# Altium schematic symbol library OltestLib.SchLib: 174 symbols (part 1 of 3)
Pins are listed as number, name and electrical type; pins without a type are passive.

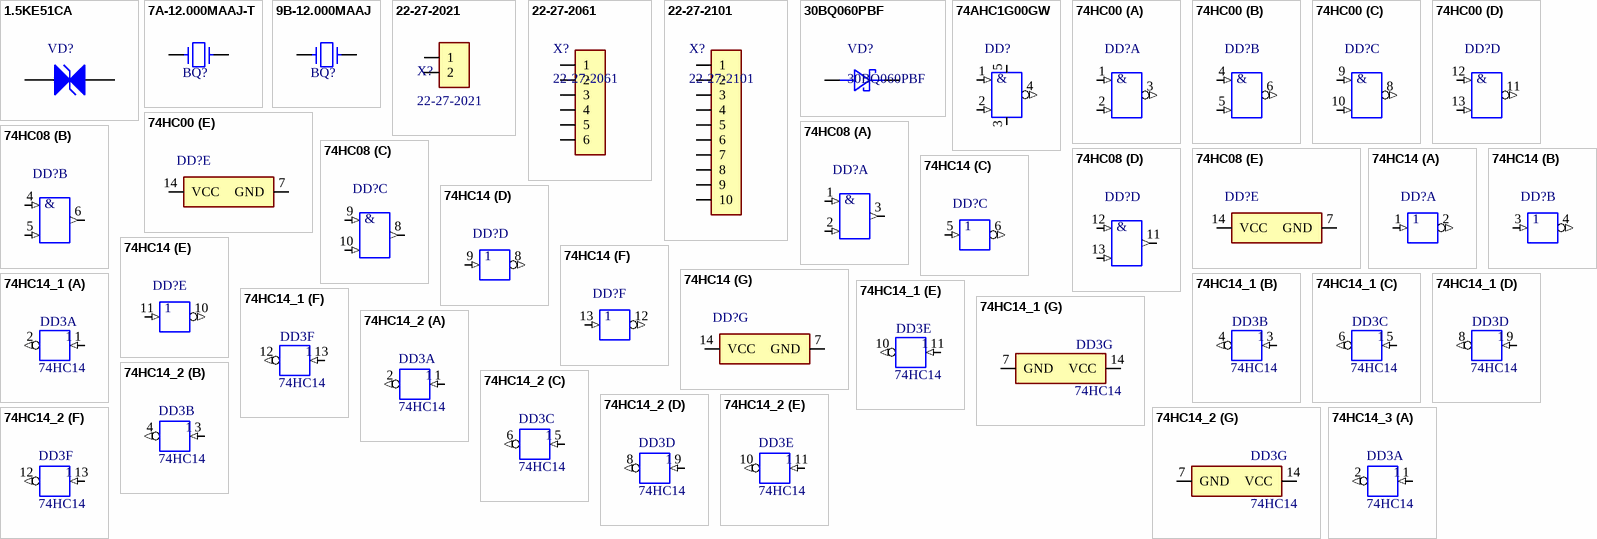
[diagram p0: symbols 1.5KE51CA to 74HC14_3]

## 1.5KE51CA
designator VD?
1500 W Zener Transient Voltage Suppressor, Bidirectional; Manufacturer: LITTELFUSE; PartNumber: 1.5KE51CA
footprint 1.5KE_CA (AXIAL, 2-Leads, Diameter 5.05mm)
pins: 1, 2

## 7A-12.000MAAJ-T
designator BQ?, comment 12MHz  (value not drawn)
12MHz Quartz Crystal 7A; PartNumber: 7A-12.000MAAJ-T; Manufacturer: TXC; Value: 12MHz
footprint DFN390P500X135-2N (DFN, 2-Leads, Body 3,20x5,00mm, Pitch 3,90mm, Quartz Crystal)
pins: 1, 2

## 9B-12.000MAAJ
designator BQ?, comment 12MHz  (value not drawn)
12MHz Quartz Crystal HC-49S; PartNumber: 9B-12.000MAAJ; Manufacturer: TXC; Value: 12MHz
footprint HC-49S
pins: 1, 2

## 22-27-2021
designator X?
KK254 6410 2-pin LS=2.54; Manufacturer: Molex; PartNumber: 22-27-2021
pins: 1, 2

## 22-27-2061
designator X?
KK254 6410 6-pin LS=2.54; Manufacturer: Molex; PartNumber: 22-27-2061
footprint 22-27-2061 (Connector; 6 Position; Vertical; Pitch 2.54 mm; Body 15.2 x 5.7 x 11.6 mm (LxWxH))
pins: 1, 2, 3, 4, 5, 6

## 22-27-2101
designator X?
KK254 6410 10-pin LS=2.54; Manufacturer: Molex; PartNumber: 22-27-2101
footprint 22-27-2101 (Connector; 10 Position; Vertical; Pitch 2.54 mm; Body 25 x 5.7 x 11.6 mm (LxWxH))
pins: 1, 2, 3, 4, 5, 6, 7, 8, 9, 10

## 30BQ060PBF
designator VD?
3A/60V Schottky 30BQ060PBF Diode (SMC); Manufacturer: NXP; PartNumber: 30BQ060PBF
footprint SMC_VD_L8.1_W6.2 (Schottky Diode, 2-Leads, Body 8,13x6,52mm, IPC Low Density)
pins: 1 ANODE, 2 CATHODE

## 74AHC1G00GW
designator DD?
2-Input-NAND Gates; Manufacturer: NXP; PartNumber: 74AHC1G00GW-Q100; VCC(Min)(V): -0.5; VCC(Max)(V): 7; Output Type: CMOS; Bits(#): 1; Technology Family: HC; Voltage(Nom)(V): 5; Schmitt Trigger: Yes; Input Type: CMOS; Operating Temperature Range(C): -40 to +125
footprint SOT353-1 (SOT353-1, 5-Leads, Body 2,05x2,13mm, Pitch 0,65mm, IPC Medium Density)
pins: 1 B (in) "Gate 1 input", 2 A (in) "Gate 1 input", 3 GND, 4 Y (out) "Gate 1 output", 5 VCC
text: &

## 74HC00
designator DD?
Quad 2-Input Positive-NAND Gates, PW0014A; Generic Part Number: SN74HC00; Manufacturer: Texas Instruments; PartNumber: SN74HC00PW; VCC(Min)(V): 2; VCC(Max)(V): 6; Output Type: CMOS; ICC @ Nom Voltage(Max)(mA): 0.02; Bits(#): 4; F @ Nom Voltage(Max)(Mhz): 70; Technology Family: HC; Voltage(Nom)(V): 5; Schmitt Trigger: Yes; Output Drive (IOL/IOH)(Max)(mA): 5.2/-5.2; tpd @ Nom Voltage(Max)(ns): 23; PackageReference: PW0014A; Input Type: CMOS; Operating Temperature Range(C): -40 to 85
footprint PW0014A_M (SOP, 14-Leads, Body 5.1x4.5mm, Pitch 0.65mm, IPC Low Density)
part A pins: 1 1A (in) "Gate 1 input", 2 1B (in) "Gate 1 input", 3 1Y (out) "Gate 1 output"
part B pins: 4 2A (in) "Gate 2 input", 5 2B (in) "Gate 2 input", 6 2Y (out) "Gate 2 output"
part C pins: 8 3Y (out) "Gate 3 output", 9 3A (in) "Gate 3 input", 10 3B (in) "Gate 3 input"
part D pins: 11 4Y (out) "Gate 4 output", 12 4A (in) "Gate 4 input", 13 4B (in) "Gate 4 input"
part E pins: 7 GND (power) "Ground Pin", 14 VCC (power) "Power Pin"
part A text: &
part B text: &
part C text: &
part D text: &

## 74HC08
designator DD?
Quadruple 2-Input Positive-AND Gates, PW0014A, TUBE; Generic Part Number: SN74HC08; Manufacturer: Texas Instruments; PartNumber: SN74HC08PW; VCC(Min)(V): 2; VCC(Max)(V): 6; Output Type: CMOS; ICC @ Nom Voltage(Max)(mA): 0.02; Bits(#): 4; F @ Nom Voltage(Max)(Mhz): 70; Rating: Catalog; Technology Family: HC; Voltage(Nom)(V): 5; Schmitt Trigger: No; tpd @ Nom Voltage(Max)(ns): 28; DatasheetVersion: SCLS081F; PackageReference: PW0014A; Input Type: CMOS; Operating Temperature Range(C): -40 to 85
footprint PW0014A_M (SOP, 14-Leads, Body 5.1x4.5mm, Pitch 0.65mm, IPC Low Density)
part A pins: 1 1A (in), 2 1B (in), 3 1Y (out)
part B pins: 4 2A (in), 5 2B (in), 6 2Y (out)
part C pins: 8 3Y (out), 9 3A (in), 10 3B (in)
part D pins: 11 4Y (out), 12 4A (in), 13 4B (in)
part E pins: 7 GND (power), 14 VCC (power)
part A text: &
part B text: &
part C text: &
part D text: &

## 74HC14
designator DD?
Quadruple 2-Input Positive-OR Gates, PW0014A; Manufacturer: Texas Instruments; PartNumber: SN74HC14PW; VCC(Min)(V): 2; VCC(Max)(V): 6; Output Type: CMOS; ICC @ Nom Voltage(Max)(mA): 0.02; Bits(#): 4; F @ Nom Voltage(Max)(Mhz): 70; Voltage(Nom)(V): 5; Output Drive (IOL/IOH)(Max)(mA): 5.2/-5.2; tpd @ Nom Voltage(Max)(ns): 25; PackageReference: PW0014A; Input Type: CMOS; Operating Temperature Range(C): -40 to 85
footprint PW0014A_M (SOP, 14-Leads, Body 5.1x4.5mm, Pitch 0.65mm, IPC Low Density)
part A pins: 1 1A (in), 2 1Y (out)
part B pins: 3 2A (in), 4 2Y (out)
part C pins: 5 3A (in), 6 3Y (out)
part D pins: 8 4Y (out), 9 4A (in)
part E pins: 10 5Y (out), 11 5A (in)
part F pins: 12 6Y (out), 13 6A (in)
part G pins: 7 GND (power), 14 VCC (power)

## 74HC14_1
designator DD3, comment 74HC14
Quadruple 2-Input Positive-OR Gates, PW0014A; Manufacturer: Texas Instruments; PartNumber: SN74HC14PW; VCC(Min)(V): 2; VCC(Max)(V): 6; Output Type: CMOS; ICC @ Nom Voltage(Max)(mA): 0.02; Bits(#): 4; F @ Nom Voltage(Max)(Mhz): 70; Voltage(Nom)(V): 5; Output Drive (IOL/IOH)(Max)(mA): 5.2/-5.2; tpd @ Nom Voltage(Max)(ns): 25; PackageReference: PW0014A; Input Type: CMOS; Operating Temperature Range(C): -40 to 85
footprint PW0014A_M (SOP, 14-Leads, Body 5.1x4.5mm, Pitch 0.65mm, IPC Low Density)
part A pins: 1 1A (in), 2 1Y (out)
part B pins: 3 2A (in), 4 2Y (out)
part C pins: 5 3A (in), 6 3Y (out)
part D pins: 8 4Y (out), 9 4A (in)
part E pins: 10 5Y (out), 11 5A (in)
part F pins: 12 6Y (out), 13 6A (in)
part G pins: 7 GND (power), 14 VCC (power)

## 74HC14_2
designator DD3, comment 74HC14
Quadruple 2-Input Positive-OR Gates, PW0014A; Manufacturer: Texas Instruments; PartNumber: SN74HC14PW; VCC(Min)(V): 2; VCC(Max)(V): 6; Output Type: CMOS; ICC @ Nom Voltage(Max)(mA): 0.02; Bits(#): 4; F @ Nom Voltage(Max)(Mhz): 70; Voltage(Nom)(V): 5; Output Drive (IOL/IOH)(Max)(mA): 5.2/-5.2; tpd @ Nom Voltage(Max)(ns): 25; PackageReference: PW0014A; Input Type: CMOS; Operating Temperature Range(C): -40 to 85
footprint PW0014A_M (SOP, 14-Leads, Body 5.1x4.5mm, Pitch 0.65mm, IPC Low Density)
part A pins: 1 1A (in), 2 1Y (out)
part B pins: 3 2A (in), 4 2Y (out)
part C pins: 5 3A (in), 6 3Y (out)
part D pins: 8 4Y (out), 9 4A (in)
part E pins: 10 5Y (out), 11 5A (in)
part F pins: 12 6Y (out), 13 6A (in)
part G pins: 7 GND (power), 14 VCC (power)

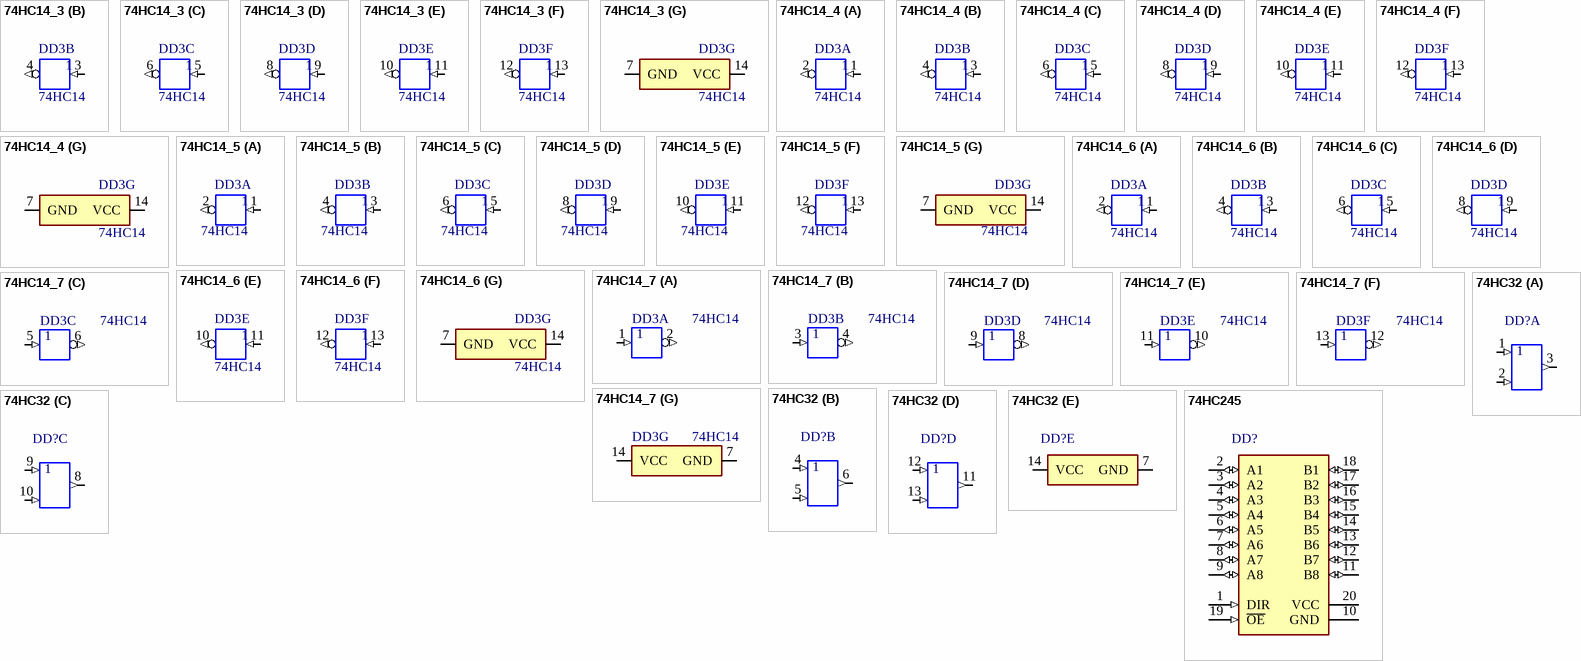
[diagram p1: symbols 74HC14_3 to 74HC245]

## 74HC14_3
designator DD3, comment 74HC14
Quadruple 2-Input Positive-OR Gates, PW0014A; Manufacturer: Texas Instruments; PartNumber: SN74HC14PW; VCC(Min)(V): 2; VCC(Max)(V): 6; Output Type: CMOS; ICC @ Nom Voltage(Max)(mA): 0.02; Bits(#): 4; F @ Nom Voltage(Max)(Mhz): 70; Voltage(Nom)(V): 5; Output Drive (IOL/IOH)(Max)(mA): 5.2/-5.2; tpd @ Nom Voltage(Max)(ns): 25; PackageReference: PW0014A; Input Type: CMOS; Operating Temperature Range(C): -40 to 85
footprint PW0014A_M (SOP, 14-Leads, Body 5.1x4.5mm, Pitch 0.65mm, IPC Low Density)
part A pins: 1 1A (in), 2 1Y (out)
part B pins: 3 2A (in), 4 2Y (out)
part C pins: 5 3A (in), 6 3Y (out)
part D pins: 8 4Y (out), 9 4A (in)
part E pins: 10 5Y (out), 11 5A (in)
part F pins: 12 6Y (out), 13 6A (in)
part G pins: 7 GND (power), 14 VCC (power)

## 74HC14_4
designator DD3, comment 74HC14
Quadruple 2-Input Positive-OR Gates, PW0014A; Manufacturer: Texas Instruments; PartNumber: SN74HC14PW; VCC(Min)(V): 2; VCC(Max)(V): 6; Output Type: CMOS; ICC @ Nom Voltage(Max)(mA): 0.02; Bits(#): 4; F @ Nom Voltage(Max)(Mhz): 70; Voltage(Nom)(V): 5; Output Drive (IOL/IOH)(Max)(mA): 5.2/-5.2; tpd @ Nom Voltage(Max)(ns): 25; PackageReference: PW0014A; Input Type: CMOS; Operating Temperature Range(C): -40 to 85
footprint PW0014A_M (SOP, 14-Leads, Body 5.1x4.5mm, Pitch 0.65mm, IPC Low Density)
part A pins: 1 1A (in), 2 1Y (out)
part B pins: 3 2A (in), 4 2Y (out)
part C pins: 5 3A (in), 6 3Y (out)
part D pins: 8 4Y (out), 9 4A (in)
part E pins: 10 5Y (out), 11 5A (in)
part F pins: 12 6Y (out), 13 6A (in)
part G pins: 7 GND (power), 14 VCC (power)

## 74HC14_5
designator DD3, comment 74HC14
Quadruple 2-Input Positive-OR Gates, PW0014A; Manufacturer: Texas Instruments; PartNumber: SN74HC14PW; VCC(Min)(V): 2; VCC(Max)(V): 6; Output Type: CMOS; ICC @ Nom Voltage(Max)(mA): 0.02; Bits(#): 4; F @ Nom Voltage(Max)(Mhz): 70; Voltage(Nom)(V): 5; Output Drive (IOL/IOH)(Max)(mA): 5.2/-5.2; tpd @ Nom Voltage(Max)(ns): 25; PackageReference: PW0014A; Input Type: CMOS; Operating Temperature Range(C): -40 to 85
footprint PW0014A_M (SOP, 14-Leads, Body 5.1x4.5mm, Pitch 0.65mm, IPC Low Density)
part A pins: 1 1A (in), 2 1Y (out)
part B pins: 3 2A (in), 4 2Y (out)
part C pins: 5 3A (in), 6 3Y (out)
part D pins: 8 4Y (out), 9 4A (in)
part E pins: 10 5Y (out), 11 5A (in)
part F pins: 12 6Y (out), 13 6A (in)
part G pins: 7 GND (power), 14 VCC (power)

## 74HC14_6
designator DD3, comment 74HC14
Quadruple 2-Input Positive-OR Gates, PW0014A; Manufacturer: Texas Instruments; PartNumber: SN74HC14PW; VCC(Min)(V): 2; VCC(Max)(V): 6; Output Type: CMOS; ICC @ Nom Voltage(Max)(mA): 0.02; Bits(#): 4; F @ Nom Voltage(Max)(Mhz): 70; Voltage(Nom)(V): 5; Output Drive (IOL/IOH)(Max)(mA): 5.2/-5.2; tpd @ Nom Voltage(Max)(ns): 25; PackageReference: PW0014A; Input Type: CMOS; Operating Temperature Range(C): -40 to 85
footprint PW0014A_M (SOP, 14-Leads, Body 5.1x4.5mm, Pitch 0.65mm, IPC Low Density)
part A pins: 1 1A (in), 2 1Y (out)
part B pins: 3 2A (in), 4 2Y (out)
part C pins: 5 3A (in), 6 3Y (out)
part D pins: 8 4Y (out), 9 4A (in)
part E pins: 10 5Y (out), 11 5A (in)
part F pins: 12 6Y (out), 13 6A (in)
part G pins: 7 GND (power), 14 VCC (power)

## 74HC14_7
designator DD3, comment 74HC14
Quadruple 2-Input Positive-OR Gates, PW0014A; Manufacturer: Texas Instruments; PartNumber: SN74HC14PW; VCC(Min)(V): 2; VCC(Max)(V): 6; Output Type: CMOS; ICC @ Nom Voltage(Max)(mA): 0.02; Bits(#): 4; F @ Nom Voltage(Max)(Mhz): 70; Voltage(Nom)(V): 5; Output Drive (IOL/IOH)(Max)(mA): 5.2/-5.2; tpd @ Nom Voltage(Max)(ns): 25; PackageReference: PW0014A; Input Type: CMOS; Operating Temperature Range(C): -40 to 85
footprint PW0014A_M (SOP, 14-Leads, Body 5.1x4.5mm, Pitch 0.65mm, IPC Low Density)
part A pins: 1 1A (in), 2 1Y (out)
part B pins: 3 2A (in), 4 2Y (out)
part C pins: 5 3A (in), 6 3Y (out)
part D pins: 8 4Y (out), 9 4A (in)
part E pins: 10 5Y (out), 11 5A (in)
part F pins: 12 6Y (out), 13 6A (in)
part G pins: 7 GND (power), 14 VCC (power)

## 74HC32
designator DD?
Quadruple 2-Input Positive-OR Gates, PW0014A; Generic Part Number: SN74HC32; Manufacturer: Texas Instruments; PartNumber: SN74HC32PW; VCC(Min)(V): 2; VCC(Max)(V): 6; Output Type: CMOS; ICC @ Nom Voltage(Max)(mA): 0.02; Bits(#): 4; F @ Nom Voltage(Max)(Mhz): 70; Voltage(Nom)(V): 5; Output Drive (IOL/IOH)(Max)(mA): 5.2/-5.2; tpd @ Nom Voltage(Max)(ns): 25; PackageReference: PW0014A; Input Type: CMOS; Operating Temperature Range(C): -40 to 85
footprint PW0014A_M (SOP, 14-Leads, Body 5.1x4.5mm, Pitch 0.65mm, IPC Low Density)
part A pins: 1 1A (in), 2 1B (in), 3 1Y (out)
part B pins: 4 2A (in), 5 2B (in), 6 2Y (out)
part C pins: 8 3Y (out), 9 3A (in), 10 3B (in)
part D pins: 11 4Y (out), 12 4A (in), 13 4B (in)
part E pins: 7 GND (power), 14 VCC (power)

## 74HC245
designator DD?
Octal Bus Transceivers With 3-State Outputs, PW0020A; Manufacturer: Texas Instruments; PartNumber: SN74HC245PW; VCC(Min)(V): 2; VCC(Max)(V): 6; Output Type: CMOS; ICC @ Nom Voltage(Max)(mA): 0.08; Bits(#): 8; F @ Nom Voltage(Max)(Mhz): 28; Rating: Catalog; Technology Family: HC; Schmitt Trigger: No; Output Drive (IOL/IOH)(Max)(mA): -6/6; tpd @ Nom Voltage(Max)(ns): 22; DatasheetVersion: SCLS131D; PackageReference: PW0020A; Input Type: CMOS; Operating Temperature Range(C): -40 to 85; Voltage(Nom)(V): 6
footprint PW0020A_M (SOP, 20-Leads, Body 6.6x4.5mm, Pitch 0.65mm, IPC Low Density)
pins: 1 DIR (in), 2 A1 (io), 3 A2 (io), 4 A3 (io), 5 A4 (io), 6 A5 (io), 7 A6 (io), 8 A7 (io), 9 A8 (io), 10 GND (power), 11 B8 (io), 12 B7 (io), 13 B6 (io), 14 B5 (io), 15 B4 (io), 16 B3 (io), 17 B2 (io), 18 B1 (io), 19 ~{OE} (in), 20 VCC (power)

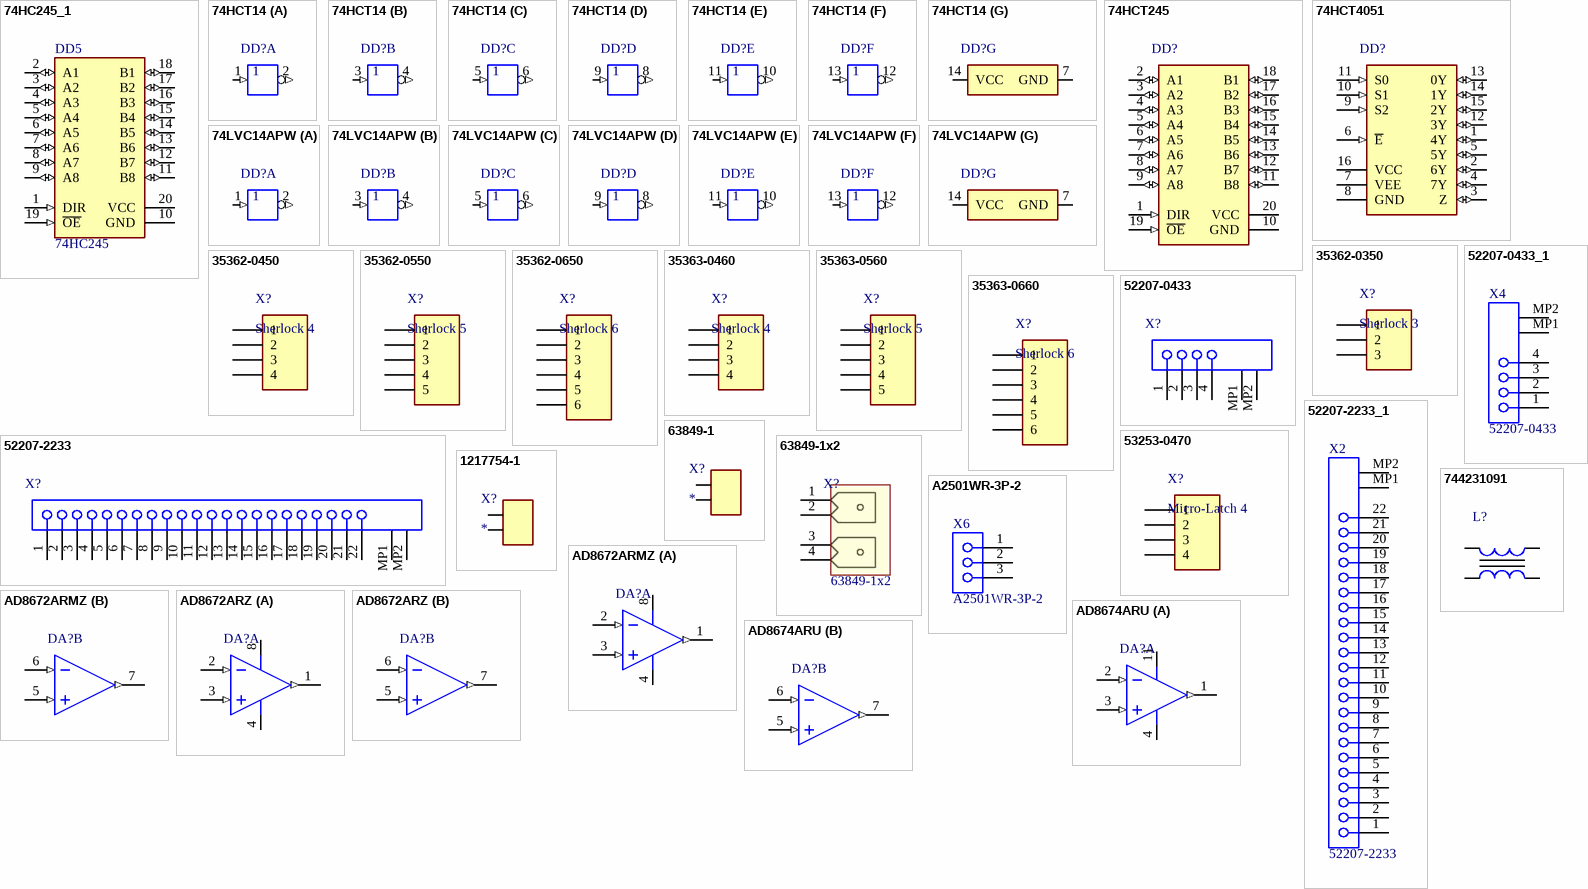
[diagram p2: symbols 74HC245_1 to AD8674ARU]

## 74HC245_1
designator DD5, comment 74HC245
Octal Bus Transceivers With 3-State Outputs, PW0020A; Manufacturer: Texas Instruments; PartNumber: SN74HC245PW; VCC(Min)(V): 2; VCC(Max)(V): 6; Output Type: CMOS; ICC @ Nom Voltage(Max)(mA): 0.08; Bits(#): 8; F @ Nom Voltage(Max)(Mhz): 28; Rating: Catalog; Technology Family: HC; Schmitt Trigger: No; Output Drive (IOL/IOH)(Max)(mA): -6/6; tpd @ Nom Voltage(Max)(ns): 22; DatasheetVersion: SCLS131D; PackageReference: PW0020A; Input Type: CMOS; Operating Temperature Range(C): -40 to 85; Voltage(Nom)(V): 6
footprint PW0020A_M (SOP, 20-Leads, Body 6.6x4.5mm, Pitch 0.65mm, IPC Low Density)
pins: 1 DIR (in), 2 A1 (io), 3 A2 (io), 4 A3 (io), 5 A4 (io), 6 A5 (io), 7 A6 (io), 8 A7 (io), 9 A8 (io), 10 GND (power), 11 B8 (io), 12 B7 (io), 13 B6 (io), 14 B5 (io), 15 B4 (io), 16 B3 (io), 17 B2 (io), 18 B1 (io), 19 ~{OE} (in), 20 VCC (power)

## 74HCT14
designator DD?
Quadruple 2-Input Positive-OR Gates, PW0014A; Manufacturer: Texas Instruments; PartNumber: SN74HC14TPW; PackageReference: PW0014A
footprint PW0014A_M (SOP, 14-Leads, Body 5.1x4.5mm, Pitch 0.65mm, IPC Low Density)
part A pins: 1 1A (in), 2 1Y (out)
part B pins: 3 2A (in), 4 2Y (out)
part C pins: 5 3A (in), 6 3Y (out)
part D pins: 8 4Y (out), 9 4A (in)
part E pins: 10 5Y (out), 11 5A (in)
part F pins: 12 6Y (out), 13 6A (in)
part G pins: 7 GND (power), 14 VCC (power)

## 74HCT245
designator DD?
Octal Bus Transceivers With 3-State Outputs, PW0020A; Manufacturer: Texas Instruments; PartNumber: SN74HCT245PW; VCC(Min)(V): 2; VCC(Max)(V): 6; Output Type: CMOS; ICC @ Nom Voltage(Max)(mA): 0.08; Bits(#): 8; F @ Nom Voltage(Max)(Mhz): 28; Rating: Catalog; Technology Family: HCT; Schmitt Trigger: No; Output Drive (IOL/IOH)(Max)(mA): -6/6; tpd @ Nom Voltage(Max)(ns): 22; PackageReference: PW0020A; Input Type: CMOS; Operating Temperature Range(C): -40 to 85; Voltage(Nom)(V): 6
footprint PW0020A_M (SOP, 20-Leads, Body 6.6x4.5mm, Pitch 0.65mm, IPC Low Density)
pins: 1 DIR (in), 2 A1 (io), 3 A2 (io), 4 A3 (io), 5 A4 (io), 6 A5 (io), 7 A6 (io), 8 A7 (io), 9 A8 (io), 10 GND (power), 11 B8 (io), 12 B7 (io), 13 B6 (io), 14 B5 (io), 15 B4 (io), 16 B3 (io), 17 B2 (io), 18 B1 (io), 19 ~{OE} (in), 20 VCC (power)

## 74HCT4051
designator DD?
8-channel analog multiplexer; Manufacturer: NXP; PartNumber: 74HCT4051; Technology Family: HCT
footprint ADI-R-16_N (SOIC, 16-Leads, Body 9.9x3.9mm, Pitch 1.27mm, IPC Medium Density)
pins: 1 4Y (io), 2 6Y (io), 3 Z (io), 4 7Y (io), 5 5Y (io), 6 ~{E} (in), 7 VEE (power), 8 GND (power), 9 S2 (in), 10 S1 (in), 11 S0 (in), 12 3Y (io), 13 0Y (io), 14 1Y (io), 15 2Y (io), 16 VCC (power)

## 74LVC14APW
designator DD?
Quadruple 2-Input Positive-OR Gates, PW0014A; Manufacturer: Texas Instruments; PartNumber: SN74LVC14APW; PackageReference: PW0014A
footprint PW0014A_M (SOP, 14-Leads, Body 5.1x4.5mm, Pitch 0.65mm, IPC Low Density)
part A pins: 1 1A (in), 2 1Y (out)
part B pins: 3 2A (in), 4 2Y (out)
part C pins: 5 3A (in), 6 3Y (out)
part D pins: 8 4Y (out), 9 4A (in)
part E pins: 10 5Y (out), 11 5A (in)
part F pins: 12 6Y (out), 13 6A (in)
part G pins: 7 GND (power), 14 VCC (power)

## 35362-0350
designator X?, comment Sherlock 3
Sherlock 3 Top, 2A 125V 2mm; PartNumber: 35362-0350; Manufacturer: MOLEX
footprint 35362-0350
pins: 1, 2, 3

## 35362-0450
designator X?, comment Sherlock 4
Sherlock 4 Top, 2A 125V 2mm; PartNumber: 35362-0450; Manufacturer: MOLEX
footprint 35362-0450
pins: 1, 2, 3, 4

## 35362-0550
designator X?, comment Sherlock 5
Sherlock 5 Top, 2A 125V 2mm; PartNumber: 35362-0550; Manufacturer: MOLEX
footprint 35362-0550
pins: 1, 2, 3, 4, 5

## 35362-0650
designator X?, comment Sherlock 6
Sherlock 6 Top, 2A 125V 2mm; PartNumber: 35362-0650; Manufacturer: MOLEX
footprint 35362-0650
pins: 1, 2, 3, 4, 5, 6

## 35363-0460
designator X?, comment Sherlock 4
Sherlock 4 Side, 2A 125V 2mm; PartNumber: 35363-0460; Manufacturer: MOLEX
footprint 35363-0460
pins: 1, 2, 3, 4

## 35363-0560
designator X?, comment Sherlock 5
Sherlock 5 Side, 2A 125V 2mm; PartNumber: 35363-0560; Manufacturer: MOLEX
footprint 35363-0560
pins: 1, 2, 3, 4, 5

## 35363-0660
designator X?, comment Sherlock 6
Sherlock 6 Side, 2A 125V 2mm; PartNumber: 35362-0650; Manufacturer: MOLEX
footprint 35363-0660
pins: 1, 2, 3, 4, 5, 6

## 52207-0433
designator X?
1.0 mm Pitch, 4 Circuits, FPC Connector, Right Angle, ZIF, SMT; Manufacturer: Molex; PartNumber: 52207-0433
footprint MOLX-52207-0433 (FPC Connector, 4-Leads, Right Angle, Pitch 1.0 mm, Mated Height 2.7 mm, SMT)
pins: 1, 2, 3, 4, MP1, MP2

## 52207-0433_1
designator X4, comment 52207-0433
1.0 mm Pitch, 4 Circuits, FPC Connector, Right Angle, ZIF, SMT; Manufacturer: Molex; PartNumber: 52207-0433
footprint MOLX-52207-0433 (FPC Connector, 4-Leads, Right Angle, Pitch 1.0 mm, Mated Height 2.7 mm, SMT)
pins: 1, 2, 3, 4, MP1, MP2

## 52207-2233
designator X?
1.0 mm Pitch, 22 Circuits, FPC Connector, Right Angle, ZIF, SMT; Manufacturer: Molex; PartNumber: 52207-2233
footprint MOLX-52207-2233 (FPC Connector, 22-Leads, Right Angle, Pitch 1.0 mm, Mated Height 2.7 mm, SMT)
pins: 1, 2, 3, 4, 5, 6, 7, 8, 9, 10, 11, 12, 13, 14, 15, 16, 17, 18, 19, 20, 21, 22, MP1, MP2

## 52207-2233_1
designator X2, comment 52207-2233
1.0 mm Pitch, 22 Circuits, FPC Connector, Right Angle, ZIF, SMT; Manufacturer: Molex; PartNumber: 52207-2233
footprint MOLX-52207-2233 (FPC Connector, 22-Leads, Right Angle, Pitch 1.0 mm, Mated Height 2.7 mm, SMT)
pins: 1, 2, 3, 4, 5, 6, 7, 8, 9, 10, 11, 12, 13, 14, 15, 16, 17, 18, 19, 20, 21, 22, MP1, MP2

## 53253-0470
designator X?, comment Micro-Latch 4
Micro-Latch 4  LS=2 2A 125V PCB; PartNumber: 53253-0470; Manufacturer: MOLEX
footprint 53253-0470
pins: 1, 2, 3, 4

## 63849-1
designator X?
PCB mount, 6.3x0.8; Manufacturer: TE Connectivity; PartNumber: 63849-1
footprint 63849-1
pins: 1, 2

## 63849-1x2
designator X?
DUAL TAB FASTON PCB 6.3x0.8 (926522-2); Manufacturer: TE Connectivity; PartNumber: 63849-1x2; Value: 63849-1x2
footprint 63849-1x2
pins: 1, 2, 3, 4
1 alternate drawing of the same symbol

## 1217754-1
designator X?
Angle 90, PCB mount, 6.3x0.8; Manufacturer: TE Connectivity; PartNumber: 1217754-1
footprint 1217754-1
pins: 1, 2

## 744231091
designator L?
SMD Common Mode Noise Suppressor WE-CNSW, Z = 90 Ohm; PartNumber: 744231091; Manufacturer: Wurth Elektronik; Impedance: 90 Ohm; DatasheetVersion: ver 4, Nov-2010; PackageReference: WE-CNSW-0805; PackageDescription: SMD Inductor, 4-Leads, Body 1.4 x 2.2 mm
footprint WE-CNSW-0805 (SMD Inductor, 4-Leads, Body 1.4x2.2x1.4 mm)
pins: 1, 2, 3, 4

## A2501WR-3P-2
designator X6
3A 250V 2.5mm (Analog JST S3B-XH-A-1); Manufacturer: JOINT TECH; PartNumber: A2501WR-3P-2
footprint S3B-XH-A-1
pins: 1, 2, 3

## AD8672ARMZ
designator DA?
Double Channel Wide Bandwidth Operational Amplifier, 10 MHz BW, 4 V/us SR, Industrial, 8-pin MSOP (RM-8); Generic Part Number: AD8672; Manufacturer: Analog Devices; PartNumber: AD8672ARMZ; Amplifiers Per Package: 2; Input Bias Current: 3nA; Input Offset Voltage: 20uV; Iq/Amp: 3.5mA; Slew Rate: 4V/us; Small Signal Bandwidth: 10MHz; V Span Max: 30V; V Span Min: 10V; DatasheetVersion: Rev. E; PackageReference: RM-8; PackageDescription: 8-Pin Mini Small Outline Package, Body 3.0 x 3.0 mm, Pitch 0.65 mm; Mounting Technology: Surface Mount; Code_JEDEC: M0-187-AA; ComponentLink1Description: Manufacturer URL; ComponentLink1URL: http://www.analog.com/en/index.html; ComponentLink2Description: Datasheet; ComponentLink2URL: http://www.analog.com/static/imported-files/data_sheets/AD8671_8672_8674.pdf; ComponentLink3Description: Package Specification; ComponentLink3URL: http://www.analog.com/static/imported-files/packages/PKG_PDF/SOIC_Narrow%20(R)/R_8.pdf; ComponentLink4Description: Reference Circuit; ComponentLink4URL: http://www.analog.com/en/all-operational-amplifiers-op-amps/operational-amplifiers-op-amps/ad8672/products/product.html#product-recommendations
footprint MSOP-RM-8 (MSOP, 8-Leads, Body 3,00x3,00mm, Pitch 0,65mm, IPC Medium Density)
part A pins: 1 OUT A (out), 2 -IN A (in), 3 +IN A (in), 4 (power), 8 (power)
part B pins: 5 +IN B (in), 6 -IN B (in), 7 OUT B (out)

## AD8672ARZ
designator DA?
Double Channel Wide Bandwidth Operational Amplifier, 10 MHz BW, 4 V/us SR, Industrial, 8-pin SOIC (R-8), Tube; Generic Part Number: AD8672; Manufacturer: Analog Devices; PartNumber: AD8672ARZ; Amplifiers Per Package: 2; Input Bias Current: 3nA; Input Offset Voltage: 20uV; Iq/Amp: 3.5mA; Slew Rate: 4V/us; Small Signal Bandwidth: 10MHz; V Span Max: 30V; V Span Min: 10V; DatasheetVersion: Rev. E; PackageVersion: 060506-A; PackageReference: R-8; PackageDescription: 8-Pin Standard Small Outline Package, Body 3.9 x 4.9 mm, Pitch 1.27 mm; Supplier Part Number 1: AD8672ARZ-ND; Supplier Part Number 2: 1581957; Supplier Part Number 3: 19M0999; Mounting Technology: Surface Mount; Code_JEDEC: MS-012-AA; ComponentLink1Description: Manufacturer URL; ComponentLink1URL: http://www.analog.com/en/index.html; ComponentLink2Description: Datasheet; ComponentLink2URL: http://www.analog.com/static/imported-files/data_sheets/AD8671_8672_8674.pdf; ComponentLink3Description: Package Specification; ComponentLink3URL: http://www.analog.com/static/imported-files/packages/PKG_PDF/SOIC_Narrow%20(R)/R_8.pdf; ComponentLink4Description: Reference Circuit; ComponentLink4URL: http://www.analog.com/en/all-operational-amplifiers-op-amps/operational-amplifiers-op-amps/ad8672/products/product.html#product-recommendations
footprint ADI-R-8_N (SOIC, 8-Leads, Body 4.9x3.9mm, Pitch 1.27mm, IPC Medium Density)
part A pins: 1 OUT A (out), 2 -IN A (in), 3 +IN A (in), 4 (power), 8 (power)
part B pins: 5 +IN B (in), 6 -IN B (in), 7 OUT B (out)

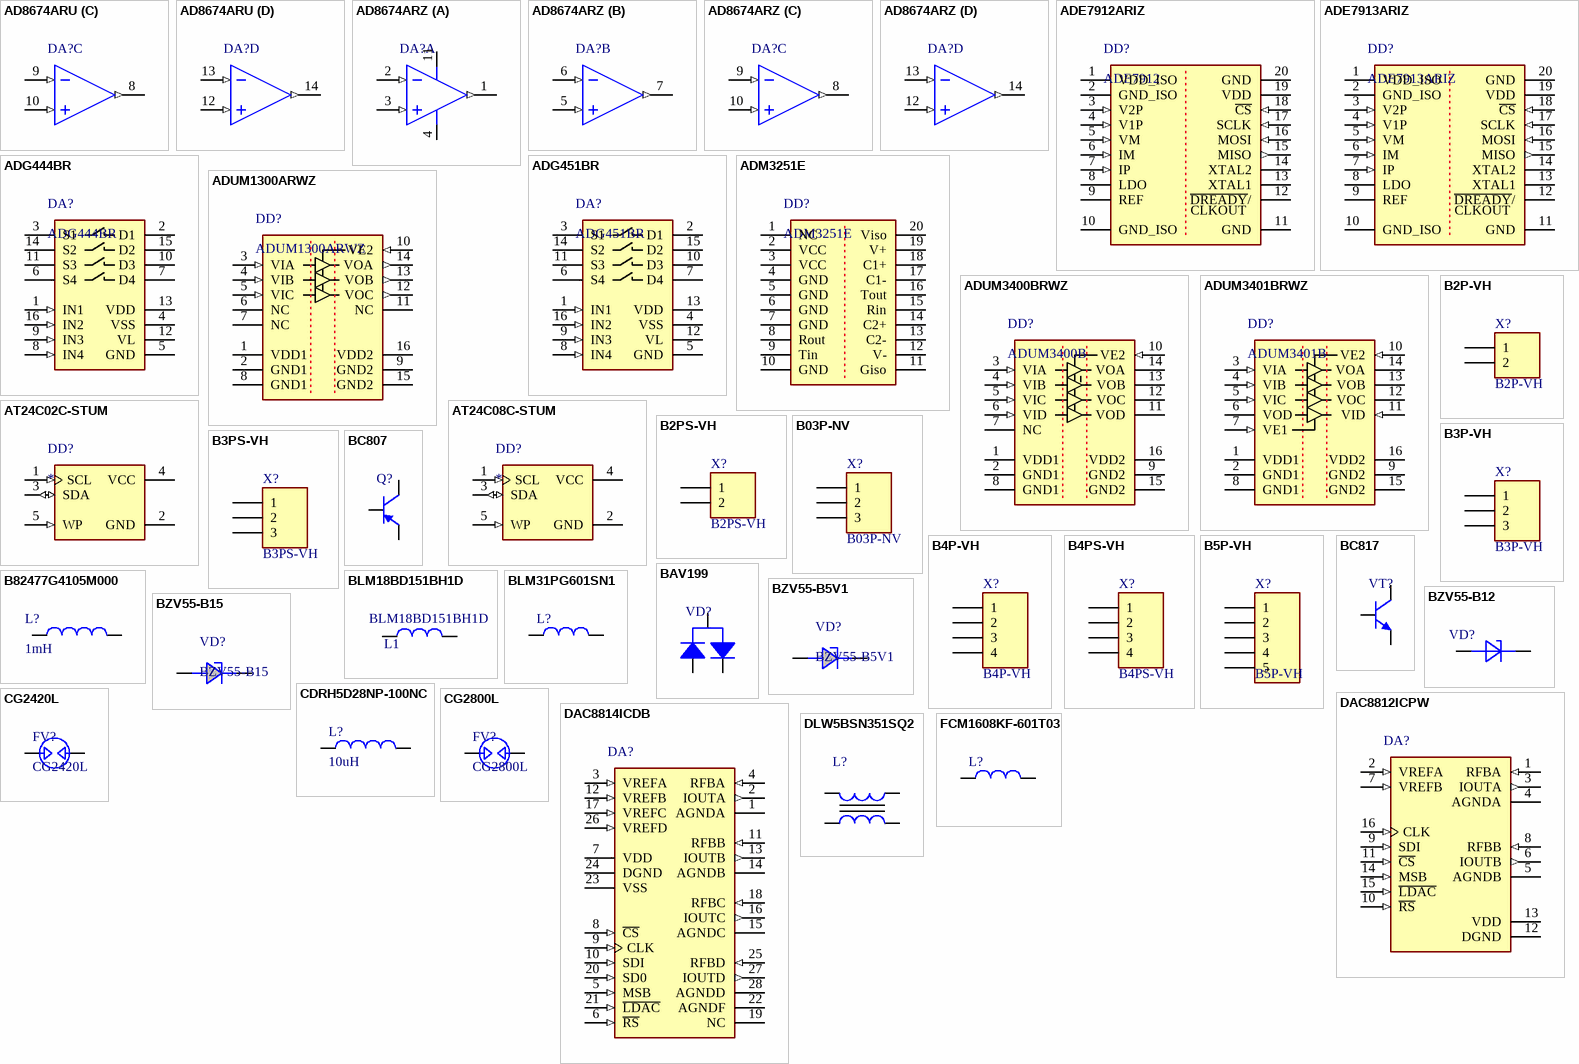
[diagram p3: symbols AD8674ARU to FCM1608KF-601T03]

## AD8674ARU
designator DA?
Quad Channel Wide Bandwidth Operational Amplifier, 10 MHz BW, 4 V/us SR, Industrial, 14-pin TSSOP (RU-14); Generic Part Number: AD8674; Manufacturer: Analog Devices; PartNumber: AD8674ARU; Amplifiers Per Package: 4; Input Bias Current: 3nA; Input Offset Voltage: 20uV; Iq/Amp: 3.5mA; Slew Rate: 4V/us; Small Signal Bandwidth: 10MHz; V Span Max: 30V; V Span Min: 10V; DatasheetVersion: Rev. E; PackageReference: R-14; PackageDescription: 14-Pin Standard Small Outline Package, Pitch 0.65 mm; Supplier Part Number 1: AD8674ARU; Mounting Technology: Surface Mount; Code_JEDEC: MS-012-AB; ComponentLink1Description: Manufacturer URL; ComponentLink1URL: http://www.analog.com/en/index.html; ComponentLink2Description: Datasheet; ComponentLink2URL: http://www.analog.com/static/imported-files/data_sheets/AD8671_8672_8674.pdf; ComponentLink3Description: Package Specification; ComponentLink3URL: http://www.analog.com/static/imported-files/packages/PKG_PDF/SOIC_Narrow%20(R)/R_8.pdf; ComponentLink4Description: Reference Circuit; ComponentLink4URL: http://www.analog.com/en/all-operational-amplifiers-op-amps/operational-amplifiers-op-amps/ad8672/products/product.html#product-recommendations
footprint TSSOP-RU-14 (TSSOP, 14-Leads, Body 5,00x4,40mm, Pitch 0,65mm, IPC Medium Density)
part A pins: 1 OUT A (out), 2 -IN A (in), 3 +IN A (in), 4 (power), 11 (power)
part B pins: 5 +IN B (in), 6 -IN B (in), 7 OUT B (out)
part C pins: 8 OUT C (out), 9 -IN C (in), 10 +IN C (in)
part D pins: 12 +IN D (in), 13 -IN D (in), 14 OUT D (out)

## AD8674ARZ
designator DA?
Quad Channel Wide Bandwidth Operational Amplifier, 10 MHz BW, 4 V/us SR, Industrial, 14-pin SOIC (R-14); Generic Part Number: AD8674; Manufacturer: Analog Devices; PartNumber: AD8674ARZ; Amplifiers Per Package: 4; Input Bias Current: 3nA; Input Offset Voltage: 20uV; Iq/Amp: 3.5mA; Slew Rate: 4V/us; Small Signal Bandwidth: 10MHz; V Span Max: 30V; V Span Min: 10V; DatasheetVersion: Rev. E; PackageReference: R-14; PackageDescription: 14-Pin Standard Small Outline Package, Pitch 1.27 mm; Supplier Part Number 1: AD8674ARZ; Mounting Technology: Surface Mount; Code_JEDEC: MS-012-AB; ComponentLink1Description: Manufacturer URL; ComponentLink1URL: http://www.analog.com/en/index.html; ComponentLink2Description: Datasheet; ComponentLink2URL: http://www.analog.com/static/imported-files/data_sheets/AD8671_8672_8674.pdf; ComponentLink3Description: Package Specification; ComponentLink3URL: http://www.analog.com/static/imported-files/packages/PKG_PDF/SOIC_Narrow%20(R)/R_8.pdf; ComponentLink4Description: Reference Circuit; ComponentLink4URL: http://www.analog.com/en/all-operational-amplifiers-op-amps/operational-amplifiers-op-amps/ad8672/products/product.html#product-recommendations
footprint TI-D14_N (SOIC, 14-Leads, Body 8.75x4mm, Pitch 1.27mm, IPC Medium Density)
part A pins: 1 OUT A (out), 2 -IN A (in), 3 +IN A (in), 4 (power), 11 (power)
part B pins: 5 +IN B (in), 6 -IN B (in), 7 OUT B (out)
part C pins: 8 OUT C (out), 9 -IN C (in), 10 +IN C (in)
part D pins: 12 +IN D (in), 13 -IN D (in), 14 OUT D (out)

## ADE7912ARIZ
designator DD?, comment ADE7912
Isolated, Sigma-Delta ADC with SPI; Manufacturer: Analog Device; PartNumber: ADE7912ARIZ
footprint RI-20-1 (SOIC, 20-Leads, Body 15,30x7,50mm, Pitch 1,27mm)
pins: 1 VDD_ISO (power), 2 GND_ISO (power), 3 V2P (in), 4 V1P (in), 5 VM (in), 6 IM (in), 7 IP (in), 8 LDO, 9 REF, 10 GND_ISO (power), 11 GND (power), 12 ~{DREADY}/, 13 XTAL1, 14 XTAL2, 15 MISO (out), 16 MOSI (in), 17 SCLK (in), 18 ~{CS} (in), 19 VDD (power), 20 GND (power)
text: CLKOUT

## ADE7913ARIZ
designator DD?
Isolated, Sigma-Delta ADC with SPI; Manufacturer: Analog Device; PartNumber: ADE7913ARIZ
footprint RI-20-1 (SOIC, 20-Leads, Body 15,30x7,50mm, Pitch 1,27mm)
pins: 1 VDD_ISO (power), 2 GND_ISO (power), 3 V2P (in), 4 V1P (in), 5 VM (in), 6 IM (in), 7 IP (in), 8 LDO, 9 REF, 10 GND_ISO (power), 11 GND (power), 12 ~{DREADY}/, 13 XTAL1, 14 XTAL2, 15 MISO (out), 16 MOSI (in), 17 SCLK (in), 18 ~{CS} (in), 19 VDD (power), 20 GND (power)
text: CLKOUT

## ADG444BR
designator DA?
LC2MOS Quad SPST Switches, 40 Ohm Ron, 16-pin SOIC (R-16), Tube; Manufacturer: Analog Devices; # Sw Functions: 4; Max Neg Supply: -16.5V; Max Pos Supply: +16.5V; Ron (ohms): 40, 70; t ON: 85ns, 105ns; DatasheetVersion: Rev. A; PackageVersion: 060606-A, 06/2006; PackageReference: R-16; PackageDescription: 16-Pin Standard Small Outline Package, Body 9.9 x 3.9 mm, Pitch 1.27 mm; Configuration: SPST; Packing: Tube; Mounting Technology: Surface Mount; Code_JEDEC: MS-012-AC; PartNumber: ADG444BR; ComponentLink1Description: Manufacturer URL; ComponentLink1URL: http://www.analog.com/en/index.html; ComponentLink2Description: Datasheet; ComponentLink2URL: http://www.analog.com/static/imported-files/data_sheets/ADG441_442_444.pdf; ComponentLink3Description: Package Specification; ComponentLink3URL: http://www.analog.com/static/imported-files/packages/PKG_PDF/SOIC_Narrow%20(R)/R_16.pdf
footprint ADI-R-16_N (SOIC, 16-Leads, Body 9.9x3.9mm, Pitch 1.27mm, IPC Medium Density)
pins: 1 IN1 (in) "Logic Control Input.", 2 D1 "Drain Terminal. May be an input or output.", 3 S1 "Source Terminal. May be an input or output.", 4 VSS (power) "Most Negative Power Supply Potential in Dual Supplies. In single supply applications, it may be connected to GND.", 5 GND (power) "Ground (0 V) Reference.", 6 S4 "Source Terminal. May be an input or output.", 7 D4 "Drain Terminal. May be an input or output.", 8 IN4 (in) "Logic Control Input.", 9 IN3 (in) "Logic Control Input.", 10 D3 "Drain Terminal. May be an input or output.", 11 S3 "Source Terminal. May be an input or output.", 12 VL (power) "Logic Power Supply (5 V).", 13 VDD (power) "Most Positive Power Supply Potential.", 14 S2 "Source Terminal. May be an input or output.", 15 D2 "Drain Terminal. May be an input or output.", 16 IN2 (in) "Logic Control Input."

## ADG451BR
designator DA?
LC2MOS Quad SPST Switches, 4 Ohm Ron, 16-pin SOIC (R-16), Tube; Manufacturer: Analog Devices; # Sw Functions: 4; Max Neg Supply: -16.5V; Max Pos Supply: +16.5V; Ron (ohms): 4, 7; DatasheetVersion: Rev. A; Configuration: SPST; Mounting Technology: Surface Mount; PartNumber: ADG451BR; ComponentLink1Description: Manufacturer URL; ComponentLink1URL: http://www.analog.com/en/index.html; ComponentLink2Description: Datasheet; ComponentLink2URL: http://www.analog.com/static/imported-files/data_sheets/ADG441_442_444.pdf; ComponentLink3Description: Package Specification; ComponentLink3URL: http://www.analog.com/static/imported-files/packages/PKG_PDF/SOIC_Narrow%20(R)/R_16.pdf
footprint ADI-R-16_N (SOIC, 16-Leads, Body 9.9x3.9mm, Pitch 1.27mm, IPC Medium Density)
pins: 1 IN1 (in) "Logic Control Input.", 2 D1 "Drain Terminal. May be an input or output.", 3 S1 "Source Terminal. May be an input or output.", 4 VSS (power) "Most Negative Power Supply Potential in Dual Supplies. In single supply applications, it may be connected to GND.", 5 GND (power) "Ground (0 V) Reference.", 6 S4 "Source Terminal. May be an input or output.", 7 D4 "Drain Terminal. May be an input or output.", 8 IN4 (in) "Logic Control Input.", 9 IN3 (in) "Logic Control Input.", 10 D3 "Drain Terminal. May be an input or output.", 11 S3 "Source Terminal. May be an input or output.", 12 VL (power) "Logic Power Supply (5 V).", 13 VDD (power) "Most Positive Power Supply Potential.", 14 S2 "Source Terminal. May be an input or output.", 15 D2 "Drain Terminal. May be an input or output.", 16 IN2 (in) "Logic Control Input."

## ADM3251E
designator DD?
Isolated, Single-Channel, RS-232 Line Driver/Receiver; Manufacturer: Analog Device; PartNumber: ADM3251EARWZ
footprint RW-20 (SOIC, 20-Leads, Body 12,80x7,50mm, Pitch 1,27mm, IPC Low Density)
pins: 1 NC, 2 VCC (power), 3 VCC (power), 4 GND (power), 5 GND (power), 6 GND (power), 7 GND (power), 8 Rout, 9 Tin, 10 GND (power), 11 Giso, 12 V-, 13 C2-, 14 C2+, 15 Rin, 16 Tout, 17 C1-, 18 C1+, 19 V+, 20 Viso

## ADUM1300ARWZ
designator DD?
Triple Channel Digital Isolator, 2.5 KV rms Insulation Rating, 1 Mbps Data Rate, 100 ns Delay, Industrial, 16-pin SOIC (RW-16); Manufacturer: Analog Devices; Insulation Rating (kVrms): 2.5; Max Data Rate: 1Mbps; PackageVersion: 032707-B, 03/2007; PackageReference: RW-16; PackageDescription: 16-Pin Standard Small Outline Package, Body 10.3 x 7.5 mm, Pitch 1.27 mm; Max Operating Temp (degreesC): 105; Mounting Technology: Surface Mount; PartNumber: ADUM1300ARWZ
footprint ADI-RW-16_N (SOIC, 16-Leads, Body 10.3x7.5mm, Pitch 1.27mm, IPC Medium Density)
pins: 1 VDD1 (power) "Supply Voltage for Isolator Side 1.", 2 GND1 (power) "Ground 1. Ground reference for Isolator Side 1.", 3 VIA (in) "Logic Input A.", 4 VIB (in) "Logic Input B.", 5 VIC (in) "Logic Input C.", 6 NC "Logic Input D.", 7 NC "No Connect.", 8 GND1 (power) "Ground 1. Ground reference for Isolator Side 1.", 9 GND2 (power) "Ground 2. Ground reference for Isolator Side 2.", 10 VE2 (in) "Output Enable 2. Active high logic input. VOA, VOB, VOC, and VOD outputs are enabled when VE2 is high or disconnected. VOA, VOB, VOC, and VOD outputs are disabled when VE2 is low. In noisy environments, connecting VE2 to an (See Datasheet)", 11 NC (hiz) "Logic Output D.", 12 VOC (out) "Logic Output C.", 13 VOB (out) "Logic Output B.", 14 VOA (out) "Logic Output A.", 15 GND2 (power) "Ground 2. Ground reference for Isolator Side 2.", 16 VDD2 (power) "Supply Voltage for Isolator Side 2."

## ADUM3400BRWZ
designator DD?, comment ADUM3400B
Quad Channel Digital Isolator, Enhanced System-Level ESD Reliability, 2.5 KV rms Insulation Rating, 10 Mbps Data Rate, 50 ns Delay, Industrial, 16-pin SOIC (RW-16), Tube; Manufacturer: Analog Devices; PartNumber: ADUM3400BRWZ; Insulation Rating (kVrms): 2.5; Max Data Rate: 10Mbps; DatasheetVersion: Rev. B; PackageVersion: 032707-B, 03/2007; PackageReference: RW-16; PackageDescription: 16-Pin Standard Small Outline Package, Body 10.3 x 7.5 mm, Pitch 1.27 mm; Max Operating Temp (degreesC): 105; Mounting Technology: Surface Mount; Code_JEDEC: MS-013-AA; ComponentLink1Description: Manufacturer URL; ComponentLink1URL: http://www.analog.com/en/index.html; ComponentLink2Description: Datasheet; ComponentLink2URL: http://www.analog.com/static/imported-files/data_sheets/ADUM3400_3401_3402.pdf; ComponentLink3Description: Package Specification; ComponentLink3URL: http://www.analog.com/static/imported-files/packages/PKG_PDF/SOIC_WIDE%20%28RW%29/RW_16.pdf; ComponentLink4Description: URL Link1; ComponentLink4URL: Product URL:http://www.analog.com/en/interface-isolation/digital-isolators/adum3400/products/product.html
footprint ADI-RW-16_N (SOIC, 16-Leads, Body 10.3x7.5mm, Pitch 1.27mm, IPC Medium Density)
pins: 1 VDD1 (power) "Supply Voltage for Isolator Side 1.", 2 GND1 (power) "Ground 1. Ground reference for Isolator Side 1.", 3 VIA (in) "Logic Input A.", 4 VIB (in) "Logic Input B.", 5 VIC (in) "Logic Input C.", 6 VID (in) "Logic Input D.", 7 NC "No Connect.", 8 GND1 (power) "Ground 1. Ground reference for Isolator Side 1.", 9 GND2 (power) "Ground 2. Ground reference for Isolator Side 2.", 10 VE2 (in) "Output Enable 2. Active high logic input. VOA, VOB, VOC, and VOD outputs are enabled when VE2 is high or disconnected. VOA, VOB, VOC, and VOD outputs are disabled when VE2 is low. In noisy environments, connecting VE2 to an (See Datasheet)", 11 VOD (hiz) "Logic Output D.", 12 VOC (hiz) "Logic Output C.", 13 VOB (hiz) "Logic Output B.", 14 VOA (hiz) "Logic Output A.", 15 GND2 (power) "Ground 2. Ground reference for Isolator Side 2.", 16 VDD2 (power) "Supply Voltage for Isolator Side 2."

## ADUM3401BRWZ
designator DD?, comment ADUM3401B
Quad Channel Digital Isolator, Enhanced System-Level ESD Reliability, 2.5 KV rms Insulation Rating, 10 Mbps Data Rate, 50 ns Delay, Industrial, 16-pin SOIC (RW-16), Tube; Manufacturer: Analog Devices; PartNumber: ADUM3401BRWZ; Insulation Rating (kVrms): 2.5; Max Data Rate: 10Mbps; DatasheetVersion: Rev. B; PackageVersion: 032707-B, 03/2007; PackageReference: RW-16; PackageDescription: 16-Pin Standard Small Outline Package, Body 10.3 x 7.5 mm, Pitch 1.27 mm; Max Operating Temp (degreesC): 105; Mounting Technology: Surface Mount; Code_JEDEC: MS-013-AA; ComponentLink1Description: Manufacturer URL; ComponentLink1URL: http://www.analog.com/en/index.html; ComponentLink2Description: Datasheet; ComponentLink2URL: http://www.analog.com/static/imported-files/data_sheets/ADUM3400_3401_3402.pdf; ComponentLink3Description: Package Specification; ComponentLink3URL: http://www.analog.com/static/imported-files/packages/PKG_PDF/SOIC_WIDE%20%28RW%29/RW_16.pdf; ComponentLink4Description: URL Link1; ComponentLink4URL: Product URL:http://www.analog.com/en/interface-isolation/digital-isolators/adum3401/products/product.html
footprint ADI-RW-16_N (SOIC, 16-Leads, Body 10.3x7.5mm, Pitch 1.27mm, IPC Medium Density)
footprint ADI-RW-16_L (SOIC, 16-Leads, Body 10.3x7.5mm, Pitch 1.27mm, IPC High Density)
footprint ADI-RW-16_M (SOIC, 16-Leads, Body 10.3x7.5mm, Pitch 1.27mm, IPC Low Density)
pins: 1 VDD1 (power) "Supply Voltage for Isolator Side 1.", 2 GND1 (power) "Ground 1. Ground reference for Isolator Side 1.", 3 VIA (in) "Logic Input A.", 4 VIB (in) "Logic Input B.", 5 VIC (in) "Logic Input C.", 6 VOD (hiz) "Logic Output D.", 7 VE1 (in) "Output Enable 1. Active high logic input. VOD output is enabled when VE1 is high or disconnected. VOD is disabled when VE1 is low. In noisy environments, connecting VE1 to an external logic high or low is recommended.", 8 GND1 (power) "Ground 1. Ground reference for Isolator Side 1.", 9 GND2 (power) "Ground 2. Ground reference for Isolator Side 2.", 10 VE2 (in) "Output Enable 2. Active high logic input. VOA, VOB, and VOC outputs are enabled when VE2 is high or disconnected. VOA, VOB, and VOC outputs are disabled when VE2 is low. In noisy environments, connecting VE2 to an external (See Datasheet)", 11 VID (in) "Logic Input D.", 12 VOC (hiz) "Logic Output C.", 13 VOB (hiz) "Logic Output B.", 14 VOA (hiz) "Logic Output A.", 15 GND2 (power) "Ground 2. Ground reference for Isolator Side 2.", 16 VDD2 (power) "Supply Voltage for Isolator Side 2."

## AT24C02C-STUM
designator DD?
I2C Serial EEPROM, 2-Kbit (256 x 8); PartNumber: AT24C02C-STUM-T; Manufacturer: ATMEL
footprint 5TS1 (SOT23, 5-Leads, Body 2,90x2,80mm, Pitch 0,95mm, IPC Medium Density)
pins: 1 SCL (in), 2 GND (power), 3 SDA (io), 4 VCC (power), 5 WP (in)

## AT24C08C-STUM
designator DD?
I2C Serial EEPROM, 8-Kbit (1024 x 8); PartNumber: AT24C08C-STUM-T; Manufacturer: ATMEL
footprint 5TS1 (SOT23, 5-Leads, Body 2,90x2,80mm, Pitch 0,95mm, IPC Medium Density)
pins: 1 SCL (in), 2 GND (power), 3 SDA (io), 4 VCC (power), 5 WP (in)

## B2P-VH
designator X?
VH Top, 10A 250V 3.96mm; Manufacturer: JST; PartNumber: B2P-VH
footprint B2P-VH
pins: 1, 2

## B2PS-VH
designator X?
VH Side, 10A 250V 3.96mm; Manufacturer: JST; PartNumber: B2PS-VH
footprint B2PS-VH
pins: 1, 2

## B03P-NV
designator X?
NV Top, 10A 250V 5mm; Manufacturer: JST; PartNumber: B03P-NV
footprint B03P-NV
pins: 1, 2, 3

## B3P-VH
designator X?
VH Top, 10A 250V 3.96mm; Manufacturer: JST; PartNumber: B3P-VH
footprint B3P-VH
pins: 1, 2, 3

## B3PS-VH
designator X?
VH Side, 10A 250V 3.96mm; Manufacturer: JST; PartNumber: B3PS-VH
footprint B3PS-VH
pins: 1, 2, 3

## B4P-VH
designator X?
VH Top, 10A 250V 3.96mm; Manufacturer: JST; PartNumber: B4P-VH
footprint B4P-VH
pins: 1, 2, 3, 4

## B4PS-VH
designator X?
VH Side, 10A 250V 3.96mm; Manufacturer: JST; PartNumber: B4PS-VH
footprint B4PS-VH
pins: 1, 2, 3, 4

## B5P-VH
designator X?
VH Top, 10A 250V 3.96mm; Manufacturer: JST; PartNumber: B5P-VH
footprint B5P-VH
pins: 1, 2, 3, 4, 5

## B82477G4105M000
designator L?, comment 1mH
1mH/0.55A 20% (1,68) Ferrite inductor SMD (12.8x12.8x8); Manufacturer: TDK(EPCOS); PartNumber: B82477G4105M000; Value: 1mH
footprint SMD_L_L12.8_W12.8 (Precision Wire Wound Inductor, 2-Leads, Body 12,80x12,80mm, IPC Low Density)
pins: 1, 2

## BAV199
designator VD?
Dual Series Switching Diodes, 3-Pin SOT-23, Tape and Reel; Manufacturer: On Semiconductor; PartNumber: BAV199LT1
footprint SOT-23-3 (SOT23, 3-Leads, Body 2.92x1.3mm, Pitch 0.95mm)
pins: 1 A, 2 K, 3 K/A

## BC807
designator Q?
PNP Silicon, 3-Pin SOT-23; Manufacturer: NXP; PartNumber: BC807
footprint SOT-23-3 (SOT23, 3-Leads, Body 2.92x1.3mm, Pitch 0.95mm)
pins: 1 B, 2 E, 3 C

## BC817
designator VT?
NPN Silicon, 3-Pin SOT-23; Manufacturer: NXP; PartNumber: BC817
footprint SOT-23-3 (SOT23, 3-Leads, Body 2.92x1.3mm, Pitch 0.95mm)
pins: 1 B, 2 E, 3 C

## BLM18BD151BH1D
designator L1
EMI Filter Bead; Manufacturer: MURATA; PartNumber: BLM18BD151BH1D
footprint SMD_L_0603 (Chip Ferrite, 2-Leads, Body 1,60x0,80mm, IPC Low Density)
pins: 1, 2

## BLM31PG601SN1
designator L?
EMI Filter Bead; Manufacturer: MURATA; PartNumber: BLM31PG601SN1
footprint SMD_L_1206 (Chip Ind, 2-Leads, Body 3,20x1,60mm, IPC Low Density)
pins: 1, 2

## BZV55-B5V1
designator VD?
Volt. regul. diode, 0.5W 5.1V 2%; Manufacturer: NXP; PartNumber: BZV55-B5V1
footprint SOD80C (MELF Diode, 2-Leads, Body 3,50x1,53mm, IPC Medium Density)
pins: 1 ANODE, 2 CATHODE

## BZV55-B12
designator VD?  (value not drawn)
SMD Zenner Diode 0.5W Vz=12V +-2%; Manufacturer: NXP; PartNumber: BZV55-B12
footprint SOD80C (MELF Diode, 2-Leads, Body 3,50x1,53mm, IPC Low Density)
pins: 1 ANODE, 2 CATHODE

## BZV55-B15
designator VD?
Volt. regul. diode, 0.5W 15V 2%; Manufacturer: NXP; PartNumber: BZV55-B15
footprint SOD80C (MELF Diode, 2-Leads, Body 3,50x1,53mm, IPC Medium Density)
pins: 1 ANODE, 2 CATHODE

## CDRH5D28NP-100NC
designator L?, comment 10uH
10uH, SMD Power Inductor; Manufacturer: SUMIDA; PartNumber: CDRH5D28NP-100NC; Value: 10uH
footprint CDRH5D28NP (Precision Wire Wound Inductor, 2-Leads, Body 5,75x5,75mm, IPC Low Density)
pins: 1, 2

## CG2420L
designator FV?
420V 20A Gas Discharge Tube; Manufacturer: LITTLEFUSE; PartNumber: CG2420L
footprint CG_L
pins: 1, 2

## CG2800L
designator FV?
800V 10A Gas Discharge Tube; Manufacturer: LITTLEFUSE; PartNumber: CG2800L
footprint CG_L
pins: 1, 2

## DAC8812ICPW
designator DA?
16-Bit, Dual Serial Input Multiplying DAC, -40 to 85 degC, 16-pin SOP (PW16), Green (RoHS & no Sb/Br); Manufacturer: Texas Instruments; PartNumber: DAC8812ICPW; DAC Channels: 2; DNL(Max)(+/-LSB): 1; Interface: Serial SPI; Power Consumption(Typ)(mW): 0.025; Resolution(Bits): 16; Settling Time(us): 0.5; SubFamily: Precision DAC (=<10MSPS); DatasheetVersion: SBAS349B; PackageVersion: 4040064-4/G, 02/2011; PackageReference: PW16; PackageDescription: 16-Pin Plastic Small Outline, Body 5 x 4.4 mm, Pitch 0.65 mm; Supplier Part Number 1: 296-19407-5-ND; Supplier Part Number 2: 1564903; Supplier Part Number 3: 71K2666; Supplier Part Number 4: 595-DAC8812ICPW; Eco-Plan: Green (RoHS & no Sb/Br); INL(Max)(+/-LSB): 1; Mounting Technology: Surface Mount; Code_JEDEC: MO-153; ComponentLink1Description: Manufacturer URL; ComponentLink1URL: http://www.ti.com/; ComponentLink2Description: Datasheet; ComponentLink2URL: http://www.ti.com/general/docs/lit/getliterature.tsp?genericPartNumber=DAC8812&fileType=pdf; ComponentLink3Description: Package Specification; ComponentLink3URL: http://www.ti.com/lit/ml/mpds361/mpds361.pdf
footprint TI-PW16_N (SOP, 16-Leads, Body 5x4.4mm, Pitch 0.65mm, IPC Medium Density)
pins: 1 RFBA (in) "Establish voltage output for DAC A by connecting to external amplifier output.", 2 VREFA (in) "DAC A Reference voltage input terminal. Establishes DAC A full-scale output voltage. Can be tied to VDD pin.", 3 IOUTA (out) "DAC A Current output.", 4 AGNDA (power) "DAC A Analog ground.", 5 AGNDB (power) "DAC B Analog ground.", 6 IOUTB (out) "DAC B Current output.", 7 VREFB (in) "DAC B Reference voltage input terminal. Establishes DAC B full-scale output voltage. Can be tied to VDD pin.", 8 RFBB (in) "Establish voltage output for DAC B by connecting to external amplifier output.", 9 SDI (in) "Serial data input; data loads directly into the shift register.", 10 ~{RS} (in) "Reset pin; active low input. Input registers and DAC registers are set to all 0s or midscale. Register data = 0x0000 when MSB = 0. Register data = 0x8000 when MSB = 1 for DAC8802.", 11 ~{CS} (in) "Chip-select; active low input. Disables shift register loading when high. Transfers serial register data to input register when C\S\ goes high. Does not affect L\D\A\C\ operation.", 12 DGND (power) "Digital ground.", 13 VDD (power) "Positive power-supply input. Specified range of operation 2.7 V to 5.5 V.", 14 MSB (in) "MSB bit sets output to either 0 or midscale during a RESET pulse (R\S\) or at system power-on. Output equals zero scale when MSB = 0 and midscale when MSB = 1. MSB pin can be permanently tied to ground or VDD.", 15 ~{LDAC} (in) "Load DAC register strobe; level sensitive active low. Transfers all input register data to the DAC registers. Asynchronous active low input. See Table 2 for operation.", 16 CLK (in) "Clock input. Positive edge clocks data into shift register."

## DAC8814ICDB
designator DA?
16-Bit, Quad Serial Input Multiplying DAC, -40 to 85 degC, 28-pin SSOP, Green (RoHS & no Sb/Br); Manufacturer: Texas Instruments; PartNumber: DAC8814ICDB; DAC Channels: 4; DNL(Max)(+/-LSB): 1; Interface: Serial SPI; Resolution(Bits): 16; Eco-Plan: Green (RoHS & no Sb/Br); INL(Max)(+/-LSB): 1; Mounting Technology: Surface Mount
footprint SSOP-28_M (SOP, 28-Leads, Body 10.2x5.3mm, Pitch 0.65mm, IPC Low Density)
pins: 1 AGNDA (power) "DAC A Analog ground.", 2 IOUTA (out) "DAC A Current output.", 3 VREFA (in) "DAC A Reference voltage input terminal. Establishes DAC A full-scale output voltage. Can be tied to VDD pin.", 4 RFBA (in) "Establish voltage output for DAC A by connecting to external amplifier output.", 5 MSB (in) "MSB bit sets output to either 0 or midscale during a RESET pulse (R\S\) or at system power-on. Output equals zero scale when MSB = 0 and midscale when MSB = 1. MSB pin can be permanently tied to ground or VDD.", 6 ~{RS} (in) "Reset pin; active low input. Input registers and DAC registers are set to all 0s or midscale. Register data = 0x0000 when MSB = 0. Register data = 0x8000 when MSB = 1 for DAC8802.", 7 VDD (power) "Positive power-supply input. Specified range of operation 2.7 V to 5.5 V.", 8 ~{CS} (in) "Chip-select; active low input. Disables shift register loading when high. Transfers serial register data to input register when C\S\ goes high. Does not affect L\D\A\C\ operation.", 9 CLK (in) "Clock input. Positive edge clocks data into shift register.", 10 SDI (in) "Serial data input; data loads directly into the shift register.", 11 RFBB (in) "Establish voltage output for DAC B by connecting to external amplifier output.", 12 VREFB (in) "DAC B Reference voltage input terminal. Establishes DAC B full-scale output voltage. Can be tied to VDD pin.", 13 IOUTB (out) "DAC B Current output.", 14 AGNDB (power) "DAC B Analog ground.", 15 AGNDC (power) "DAC B Analog ground.", 16 IOUTC (out) "DAC B Current output.", 17 VREFC (in) "DAC B Reference voltage input terminal. Establishes DAC B full-scale output voltage. Can be tied to VDD pin.", 18 RFBC (in) "Establish voltage output for DAC B by connecting to external amplifier output.", 19 NC (power) "DAC B Analog ground.", 20 SD0 (in) "Serial data input; data loads directly into the shift register.", 21 ~{LDAC} (in) "Load DAC register strobe; level sensitive active low. Transfers all input register data to the DAC registers. Asynchronous active low input. See Table 2 for operation.", 22 AGNDF (power) "Digital ground.", 23 VSS (power) "Positive power-supply input. Specified range of operation 2.7 V to 5.5 V.", 24 DGND (power) "Digital ground.", 25 RFBD (in) "Establish voltage output for DAC B by connecting to external amplifier output.", 26 VREFD (in) "DAC B Reference voltage input terminal. Establishes DAC B full-scale output voltage. Can be tied to VDD pin.", 27 IOUTD (out) "DAC B Current output.", 28 AGNDD (power) "DAC B Analog ground."

## DLW5BSN351SQ2
designator L?
SMD Common Mode Choke Coil Z = 350 Ohm / 100 MHz; PartNumber: DLW5BSN351SQ2; Manufacturer: MURATA; Impedance: 350 Ohm
footprint DLW5BSN351SQ2 (SMD Inductor)
pins: 1, 2, 3, 4

## FCM1608KF-601T03
designator L?
Bead 600R 350mA 0603; Manufacturer: Tai-tech; PartNumber: FCM1608KF-601T03
footprint SMD_R_0603 (Chip Resistor, 2-Leads, Body 1,55x0,85mm, IPC Low Density)
pins: 1, 2

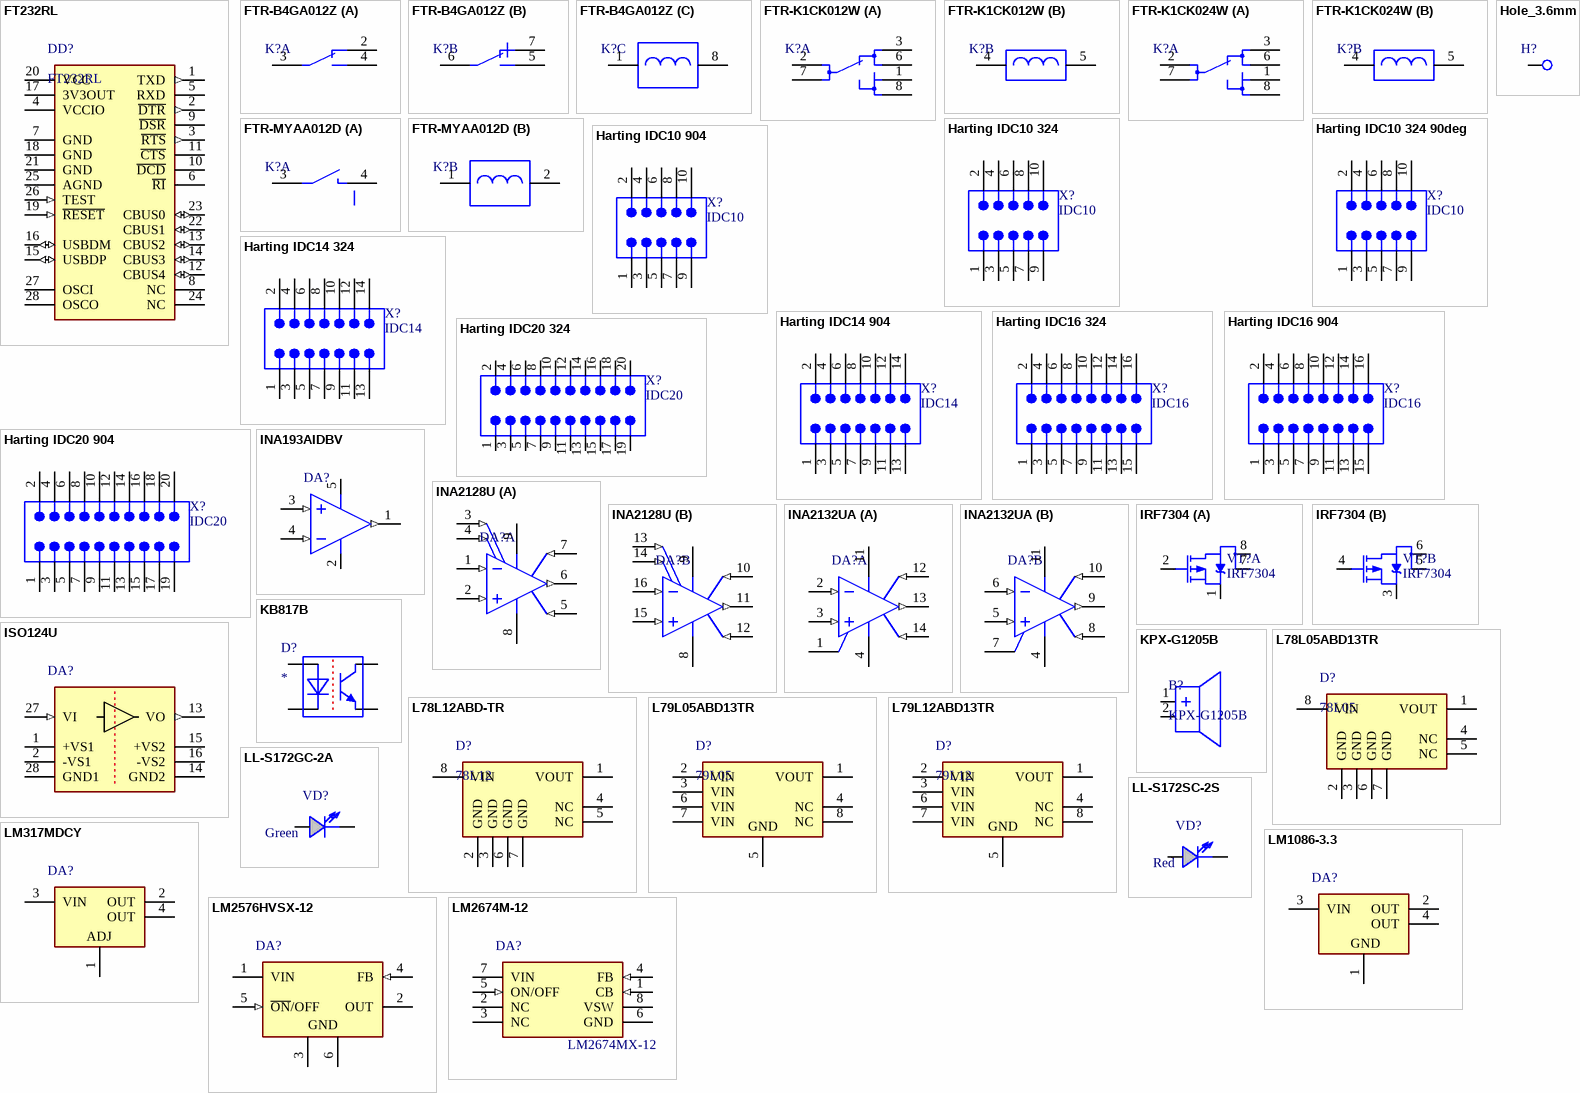
[diagram p4: symbols FT232RL to LM2674M-12]

## FT232RL
designator DD?
USB UART Asynchronous Serial Data Transfer Chip, 28-pin SSOP; Manufacturer: FTDI; PartNumber: FT232RL
footprint SSOP-28_M (SOP, 28-Leads, Body 10.2x5.3mm, Pitch 0.65mm, IPC Low Density)
pins: 1 TXD (out), 2 ~{DTR} (out), 3 ~{RTS} (out), 4 VCCIO (power), 5 RXD, 6 ~{RI}, 7 GND (power), 8 NC, 9 ~{DSR}, 10 ~{DCD}, 11 ~{CTS}, 12 CBUS4 (io), 13 CBUS2 (io), 14 CBUS3 (io), 15 USBDP (io), 16 USBDM (io), 17 3V3OUT, 18 GND (power), 19 ~{RESET} (in), 20 VCC (power), 21 GND (power), 22 CBUS1 (io), 23 CBUS0 (io), 24 NC, 25 AGND (power), 26 TEST (in), 27 OSCI, 28 OSCO

## FTR-B4GA012Z
designator K?
250VAC 1A DPDT 12VDC; PartNumber: FTR-B4GA012Z; Manufacturer: Fujitsu
footprint FTR-B4GA
part A pins: 2, 3, 4
part B pins: 5, 6, 7
part C pins: 1, 8

## FTR-K1CK012W
designator K?
1 POLE - 16A 80A Inrush type Power Relay 12V; PartNumber: FTR-K1CK012W; Manufacturer: Fujitsu
footprint FTR-K1_CK (FTR-K1 1 form C)
part A pins: 1, 2, 3, 6, 7, 8
part B pins: 4, 5

## FTR-K1CK024W
designator K?
1 POLE - 16A 80A Inrush type Power Relay 24V; PartNumber: FTR-K1CK024W; Manufacturer: Fujitsu
footprint FTR-K1_CK (FTR-K1 1 form C)
part A pins: 1, 2, 3, 6, 7, 8
part B pins: 4, 5

## FTR-MYAA012D
designator K?
1 POLE - 5A Slim Power Relay; PartNumber: FTR-MYAA012D; Manufacturer: Fujitsu
footprint FTR-MY
part A pins: 3, 4
part B pins: 1, 2

## Harting IDC10 324
designator X?, comment IDC10
Flat Cable Connector (IDC), Low-Profile Male Header, Straight Solder Pin, 10 Contacts, Performance Level 2; PartNumber: 09 18 510 6324; PCB_Layout: Complies with manufacturer's recommendation.; DrillSize: Corresponds to nominal value.; Published: 15-Nov-2004; DatasheetDocument: Sep-2003; PackageDocument: 03-Jun-2003; PackageReference: 918510x324; Publisher: Altium Limited; ComponentLink1Description: Manufacturer Link; ComponentLink1URL: http://www.harting.com/; ComponentLink2Description: Selection Guide; ComponentLink2URL: http://www.harting.com/imperia/md/content/steckverbinderundsystemkomponenten/folder/interface_engl_chapter_09.pdf
footprint 918510x324 (Connector; IDC, Low Profile Male Header, Thru-Hole; 10 Position; Vertical; Pitch 2.54 mm; Body 20.32 x 9.2 x 9.45 mm (LxWxH))
pins: 1, 2, 3, 4, 5, 6, 7, 8, 9, 10

## Harting IDC10 324 90deg
designator X?, comment IDC10
Flat Cable Connector (IDC), Low-Profile Male Header, Straight Solder Pin, 10 Contacts, Performance Level 2; PartNumber: 09 18 510 6324; PCB_Layout: Complies with manufacturer's recommendation.; DrillSize: Corresponds to nominal value.; Published: 15-Nov-2004; DatasheetDocument: Sep-2003; PackageDocument: 03-Jun-2003; PackageReference: 918510x324; Publisher: Altium Limited; ComponentLink1Description: Manufacturer Link; ComponentLink1URL: http://www.harting.com/; ComponentLink2Description: Selection Guide; ComponentLink2URL: http://www.harting.com/imperia/md/content/steckverbinderundsystemkomponenten/folder/interface_engl_chapter_09.pdf
footprint 918510x324 90deg (Connector; IDC, Low Profile Male Header, Thru-Hole; 10 Position; Vertical; Pitch 2.54 mm; Body 20.32 x 9.2 x 9.45 mm (LxWxH))
pins: 1, 2, 3, 4, 5, 6, 7, 8, 9, 10